# EAGLE library part MSP430FR2433IYQWR (library MSP430fr24333)
16 MHz Ultra-Low-Power Microcontroller with 16 KB FRAM, 4 KB RAM, 10-bit ADC, 19 IO, 4 16-bit Timers Source: Datasheet <http://www.ti.com/lit/gpn/msp430fr2433>
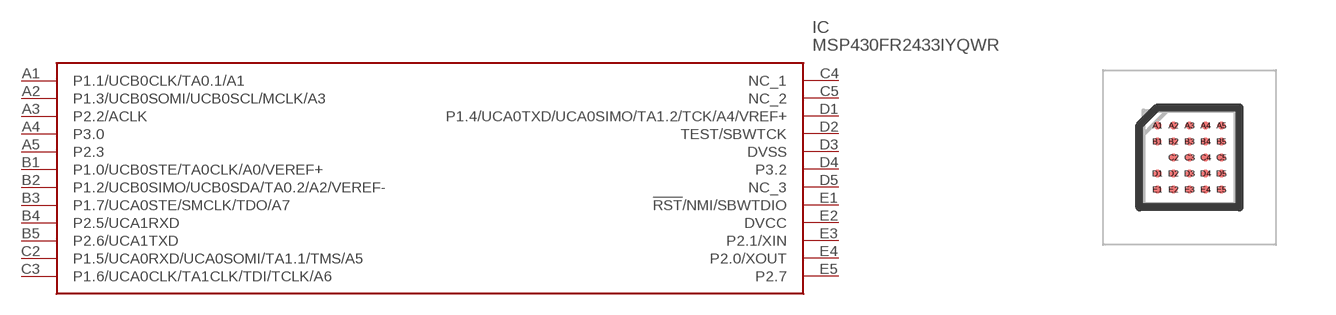
[diagram p1: symbol with the pads of BGA24C40P5X5_229X234X62; footprint BGA24C40P5X5_229X234X62]

Designator prefix IC

## MSP430FR2433IYQWR (DESCRIPTION: 16 MHz Ultra-Low-Power Microcontroller with 16 KB FRAM, 4 KB RAM, 10-bit ADC, 19 IO, 4 16-bit Timers; HEIGHT: 0.625mm; MANUFACTURER_NAME: Texas Instruments; MANUFACTURER_PART_NUMBER: MSP430FR2433IYQWR; MOUSER_PART_NUMBER: 595-SP430FR2433IYQWR; MOUSER_PRICE-STOCK: https://www.mouser.co.uk/ProductDetail/Texas-Instruments/MSP430FR2433IYQWR?qs=HXFqYaX1Q2xljpfpEwhnfw%3D%3D)  [BGA24C40P5X5_229X234X62]
A1  P1.1/UCB0CLK/TA0.1/A1
A2  P1.3/UCB0SOMI/UCB0SCL/MCLK/A3
A3  P2.2/ACLK
A4  P3.0
A5  P2.3
B1  P1.0/UCB0STE/TA0CLK/A0/VEREF+
B2  P1.2/UCB0SIMO/UCB0SDA/TA0.2/A2/VEREF-
B3  P1.7/UCA0STE/SMCLK/TDO/A7
B4  P2.5/UCA1RXD
B5  P2.6/UCA1TXD
C2  P1.5/UCA0RXD/UCA0SOMI/TA1.1/TMS/A5
C3  P1.6/UCA0CLK/TA1CLK/TDI/TCLK/A6
C4  NC_1
C5  NC_2
D1  P1.4/UCA0TXD/UCA0SIMO/TA1.2/TCK/A4/VREF+
D2  TEST/SBWTCK
D3  DVSS
D4  P3.2
D5  NC_3
E1  !RST!/NMI/SBWTDIO
E2  DVCC
E3  P2.1/XIN
E4  P2.0/XOUT
E5  P2.7

## Footprint BGA24C40P5X5_229X234X62 (pad centres in mm)
DSBGA - 0.625 mm
smd 0.2 x 0.2: A1 -0.8,0.8; A2 -0.4,0.8; A3 0,0.8; A4 0.4,0.8; A5 0.8,0.8; B1 -0.8,0.4; B2 -0.4,0.4; B3 0,0.4; B4 0.4,0.4; B5 0.8,0.4; C2 -0.4,0; C3 0,0; C4 0.4,0; C5 0.8,0; D1 -0.8,-0.4; D2 -0.4,-0.4; D3 0,-0.4; D4 0.4,-0.4; D5 0.8,-0.4; E1 -0.8,-0.8; E2 -0.4,-0.8; E3 0,-0.8; E4 0.4,-0.8; E5 0.8,-0.8